# Altium footprint library mw.PcbLib: 252 footprints (part 10 of 16)
Each footprint in its own frame and in the unit in brackets; x right, y up, seen from the top. Pads: shape width x height; smd on the part's side, far side on the other; paste and mask are expansions set on the pad; w line width, h text height; cw(c..) or ccw(c..) is an arc to the next point about the centre after c.
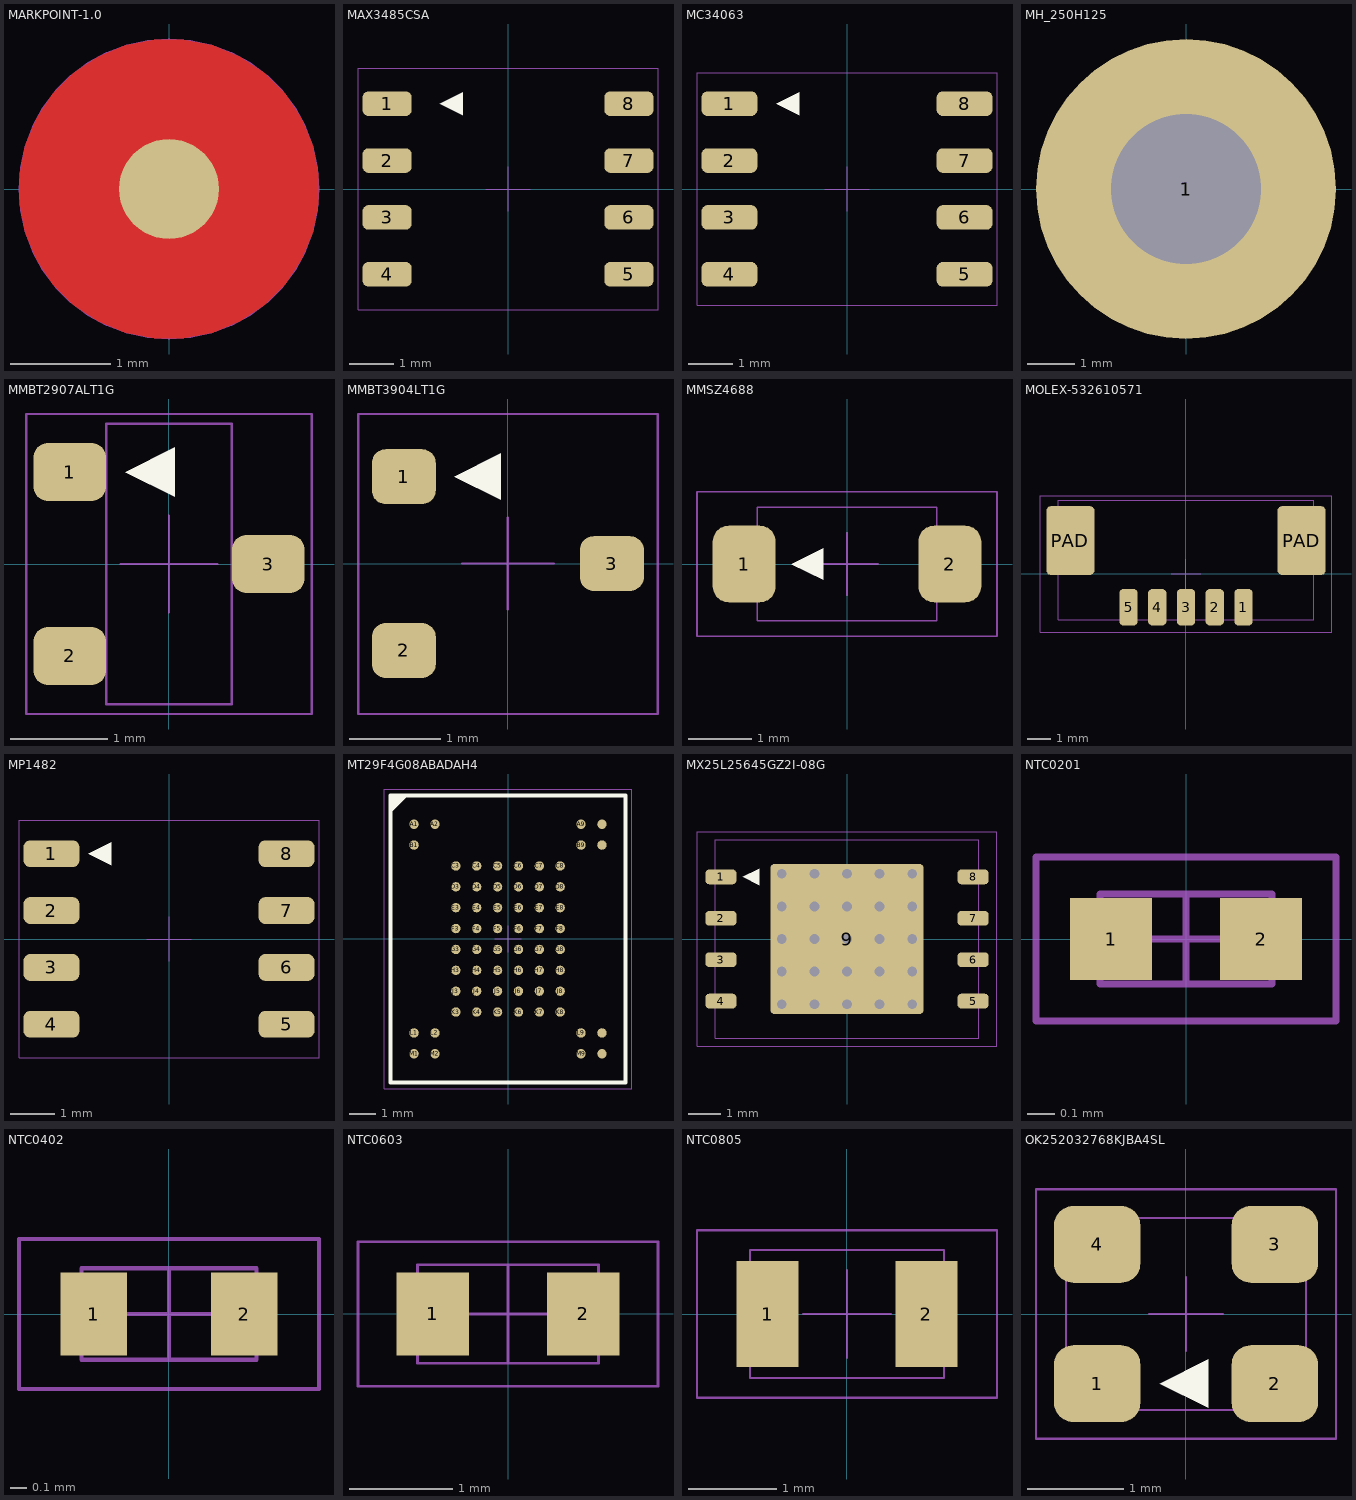
[diagram p9: the footprints below, top view; thin cyan lines are the x and y axes]

## MARKPOINT-1.0 [mm]
pads (2):
  round 1 smd: ""(0,0)
  round 3 on Top Solder: ""(0,0)
Top Layer:
  pour cut-out: 0,-1.494 -0.147,-1.494 -0.436,-1.437 -0.708,-1.324 -0.952,-1.161 -1.161,-0.952 -1.324,-0.708 -1.437,-0.436 -1.494,-0.147 -1.494,0 -1.494,0.147 -1.437,0.436 -1.324,0.708 -1.161,0.952 -0.952,1.161 -0.708,1.324 -0.436,1.437 -0.147,1.494 0,1.494 0.147,1.494 0.436,1.437 0.708,1.324 0.952,1.161 1.161,0.952 1.324,0.708 1.437,0.436 1.494,0.147 1.494,0 1.494,-0.147 1.437,-0.436 1.324,-0.708 1.161,-0.952 0.952,-1.161 0.708,-1.324 0.436,-1.437 0.147,-1.494
Top Courtyard:
  circle w0.025: c0,0 r1.494

## MAX3485CSA [mm]
height 1.7
pads (8):
  rrect50% 1.1x0.55 smd: 1(-2.7,1.905) 2(-2.7,0.635) 3(-2.7,-0.635) 4(-2.7,-1.905) 5(2.7,-1.905) 6(2.7,-0.635) 7(2.7,0.635) 8(2.7,1.905)
Top Overlay:
  region: -1.016,1.651 -1.016,2.159 -1.524,1.905
Top Courtyard:
  lines w0.025: -0.5,0 0.5,0 ; 0,-0.5 0,0.5 ; -3.35,-2.7 3.35,-2.7 3.35,2.7 -3.35,2.7 -3.35,-2.7
3D body "max3485.STEP": height 1.78, standoff 0, extent -3.128,-2.5 3.128,2.5

## MC34063 [mm]
height 1.6
pads (8):
  rrect50% 1.25x0.55 smd: 1(-2.625,1.905) 2(-2.625,0.635) 3(-2.625,-0.635) 4(-2.625,-1.905) 5(2.625,-1.905) 6(2.625,-0.635) 7(2.625,0.635) 8(2.625,1.905)
Top Overlay:
  region: -1.067,1.651 -1.067,2.159 -1.575,1.905
Top Courtyard:
  lines w0.025: -0.5,0 0.5,0 ; 0,-0.5 0,0.5 ; -3.35,-2.6 3.35,-2.6 3.35,2.6 -3.35,2.6 -3.35,-2.6
3D body "mp1482.STEP": height 1.74, standoff 0, extent -3.023,-2.428 3.132,2.472

## MH_250H125 [mm] "MH_250H125"
pads (1):
  round 6.35 hole 3.175: 1(0,0)
Bottom Assembly (Mech10):
  text "1" at -0.406,0 h0.51

## MMBT2907ALT1G [mm] "SOT23, 3-Leads, Body 2.85x2.25mm, Pitch 0.95mm, IPC High Density"
height 1
pads (3):
  rrect50% 0.75x0.6 smd: 1(-1.025,0.95) 2(-1.025,-0.95) 3(1.025,0)
Top Overlay:
  region: 0.058,0.696 0.058,1.204 -0.45,0.95
Top 3D Body (Mech13):
  lines w0.025: -0.65,-1.45 -0.65,1.45 0.65,1.45 0.65,-1.45 -0.65,-1.45
Top Courtyard:
  lines w0.025: -0.5,0 0.5,0 ; 0,-0.5 0,0.5 ; -1.475,-1.55 -1.475,1.55 1.475,1.55 1.475,-1.55 -1.475,-1.55
3D body "MMBT2907ALT1G.step": height 1, standoff 0, extent -1.3,-1.45 1.3,1.45

## MMBT3904LT1G [mm] "MMBT3904LT1G"
pads (3):
  rrect50% 0.7x0.6 smd: 1(-1.137,0.95) 2(-1.137,-0.95) 3(1.138,0)
Top Overlay:
  region: -0.079,0.696 -0.079,1.204 -0.587,0.95
Top Courtyard:
  lines w0.025: -0.5,0 0.5,0 ; 0,-0.5 0,0.5 ; -1.637,-1.645 -1.637,1.635 1.64,1.635 1.64,-1.645 -1.637,-1.645
3D body "sot23-3.STEP": height 1.04, standoff 0, extent -1.244,-1.499 1.221,1.501

## MMSZ4688 [mm] "TSOP, 2-Leads, Body 1.60x2.70mm, Pitch 0.80mm, IPC Medium Density"
height 1.35
pads (2):
  rrect50% 1x1.22 smd: 1(-1.635,0) 2(1.635,0)
Top Overlay:
  region: -0.381,-0.254 -0.381,0.254 -0.889,0
Top 3D Body (Mech13):
  lines w0.025: -1.425,-0.9 1.425,-0.9 1.425,0.9 -1.425,0.9 -1.425,-0.9
Top Courtyard:
  lines w0.025: -0.5,0 0.5,0 ; 0,-0.5 0,0.5 ; -2.385,-1.15 -2.385,1.15 2.385,1.15 2.385,-1.15 -2.385,-1.15
3D body "MMSZ4688.step": height 1.35, standoff 0, extent -1.85,-0.8 1.85,0.8

## MOLEX-532610571 [mm]
pads (7):
  rrect50% 0.8x1.6 smd: 1(2.5,-1.45) 2(1.25,-1.45) 3(0,-1.45) 4(-1.25,-1.45) 5(-2.5,-1.45)
  rrect20% 2.1x3 smd: PAD(-5.023,1.45) PAD(5.023,1.45)
Top 3D Body (Mech13):
  lines w0.025: -5.554,-2 5.554,-2 5.554,3.2 -5.554,3.2 -5.554,-2
Top Courtyard:
  lines w0.025: -0.635,0 0.635,0 ; 0,-0.635 0,0.635 ; -6.338,-2.526 -6.338,3.389 6.338,3.389 6.338,-2.526 -6.338,-2.526
3D body "MOLEX-532610571.step": height 3.4, standoff 0, extent -5.554,-2 5.554,3.2

## MP1482 [mm]
height 1.75
pads (8):
  rrect50% 1.25x0.6 smd: 1(-2.625,1.905) 2(-2.625,0.635) 3(-2.625,-0.635) 4(-2.625,-1.905) 5(2.625,-1.905) 6(2.625,-0.635) 7(2.625,0.635) 8(2.625,1.905)
Top Overlay:
  region: -1.292,1.651 -1.292,2.159 -1.8,1.905
Top Courtyard:
  lines w0.025: -0.5,0 0.5,0 ; 0,-0.5 0,0.5 ; -3.35,-2.65 3.35,-2.65 3.35,2.65 -3.35,2.65 -3.35,-2.65
3D body "mp1482.STEP": height 1.74, standoff 0, extent -3.023,-2.428 3.132,2.472

## MT29F4G08ABADAH4 [mm] "BGA, 63-Leads, Body 9.00x11.00mmx1.00mm, Pitch 0.80mm"
height 1
pads (63):
  round 0.36 smd: A1(-3.6,4.4) A2(-2.8,4.4) A9(2.8,4.4) A10(3.6,4.4) B1(-3.6,3.6) B9(2.8,3.6) B10(3.6,3.6) C3(-2,2.8) C4(-1.2,2.8) C5(-0.4,2.8) C6(0.4,2.8) C7(1.2,2.8) C8(2,2.8) D3(-2,2) D4(-1.2,2) D5(-0.4,2) D6(0.4,2) D7(1.2,2) D8(2,2) E3(-2,1.2) E4(-1.2,1.2) E5(-0.4,1.2) E6(0.4,1.2) E7(1.2,1.2) E8(2,1.2) F3(-2,0.4) F4(-1.2,0.4) F5(-0.4,0.4) F6(0.4,0.4) F7(1.2,0.4) F8(2,0.4) G3(-2,-0.4) G4(-1.2,-0.4) G5(-0.4,-0.4) G6(0.4,-0.4) G7(1.2,-0.4) G8(2,-0.4) H3(-2,-1.2) H4(-1.2,-1.2) H5(-0.4,-1.2) H6(0.4,-1.2) H7(1.2,-1.2) H8(2,-1.2) J3(-2,-2) J4(-1.2,-2) J5(-0.4,-2) J6(0.4,-2) J7(1.2,-2) J8(2,-2) K3(-2,-2.8) K4(-1.2,-2.8) K5(-0.4,-2.8) K6(0.4,-2.8) K7(1.2,-2.8) K8(2,-2.8) L1(-3.6,-3.6) L2(-2.8,-3.6) L9(2.8,-3.6) L10(3.6,-3.6) M1(-3.6,-4.4) M2(-2.8,-4.4) M9(2.8,-4.4) M10(3.6,-4.4)
Top Overlay:
  region: -3.847,5.5 -4.5,4.847 -4.5,5.5
  lines w0.152: -4.5,-5.5 4.5,-5.5 4.5,5.5 -4.5,5.5 -4.5,-5.5
Top Courtyard:
  lines w0.025: -0.5,0 0.5,0 ; 0,-0.5 0,0.5 ; -4.75,-5.75 4.75,-5.75 4.75,5.75 -4.75,5.75 -4.75,-5.75

## MX25L25645GZ2I-08G [mm] "SON, 8-Leads, Body 6.00x8.00mm, Pitch 1.27mm, Thermal Pad 4.60x4.70mm, IPC Medium Density"
height 0.8
pads (9):
  rrect50% 0.95x0.45 smd: 1(-3.87,1.905) 2(-3.87,0.635) 3(-3.87,-0.635) 4(-3.87,-1.905) 5(3.87,-1.905) 6(3.87,-0.635) 7(3.87,0.635) 8(3.87,1.905)
  rrect5% 4.7x4.6 smd paste-2.35: 9(0,0)
via -2,2 diameter 0.45 hole 0.3
via -1,2 diameter 0.45 hole 0.3
via 0,2 diameter 0.45 hole 0.3
via 1,2 diameter 0.45 hole 0.3
via 2,2 diameter 0.45 hole 0.3
via -2,1 diameter 0.45 hole 0.3
via -1,1 diameter 0.45 hole 0.3
via 0,1 diameter 0.45 hole 0.3
via 1,1 diameter 0.45 hole 0.3
via 2,1 diameter 0.45 hole 0.3
via -2,0 diameter 0.45 hole 0.3
via -1,0 diameter 0.45 hole 0.3
via 0,0 diameter 0.45 hole 0.3
via 1,0 diameter 0.45 hole 0.3
via 2,0 diameter 0.45 hole 0.3
via -2,-1 diameter 0.45 hole 0.3
via -1,-1 diameter 0.45 hole 0.3
via 0,-1 diameter 0.45 hole 0.3
via 1,-1 diameter 0.45 hole 0.3
via 2,-1 diameter 0.45 hole 0.3
via -2,-2 diameter 0.45 hole 0.3
via -1,-2 diameter 0.45 hole 0.3
via 0,-2 diameter 0.45 hole 0.3
via 1,-2 diameter 0.45 hole 0.3
via 2,-2 diameter 0.45 hole 0.3
Top Overlay:
  region: -2.687,1.651 -2.687,2.159 -3.195,1.905
Top Paste:
  rectangle: -2.26,1.25 -1.28,2.2
  rectangle: -2.26,0.1 -1.28,1.05
  rectangle: -2.26,-1.05 -1.28,-0.1
  rectangle: -2.26,-2.2 -1.28,-1.25
  rectangle: -1.08,1.25 -0.1,2.2
  rectangle: -1.08,0.1 -0.1,1.05
  rectangle: -1.08,-1.05 -0.1,-0.1
  rectangle: -1.08,-2.2 -0.1,-1.25
  rectangle: 0.1,1.25 1.08,2.2
  rectangle: 0.1,0.1 1.08,1.05
  rectangle: 0.1,-1.05 1.08,-0.1
  rectangle: 0.1,-2.2 1.08,-1.25
  rectangle: 1.28,1.25 2.26,2.2
  rectangle: 1.28,0.1 2.26,1.05
  rectangle: 1.28,-1.05 2.26,-0.1
  rectangle: 1.28,-2.2 2.26,-1.25
Top 3D Body (Mech13):
  lines w0.025: -4.05,-3.05 -4.05,3.05 4.05,3.05 4.05,-3.05 -4.05,-3.05
Top Courtyard:
  lines w0.025: -0.5,0 0.5,0 ; 0,-0.5 0,0.5 ; -4.605,-3.3 -4.605,3.3 4.605,3.3 4.605,-3.3 -4.605,-3.3
3D body "MX25L25645GZ2I-08G.step": height 0.8, standoff 0, extent -4.1,-3.05 4.1,3.05

## NTC0201 [mm] "Chip Resistor, 2-Leads, Body 0.60x0.30mm, IPC Medium Density"
height 0.33
pads (2):
  rect 0.3x0.3 smd: 1(-0.275,0) 2(0.275,0)
Top 3D Body (Mech13):
  lines w0.025: -0.315,-0.165 0.315,-0.165 0.315,0.165 -0.315,0.165 -0.315,-0.165
Top Courtyard:
  lines w0.025: -0.165,0 0.165,0 ; 0,-0.165 0,0.165 ; -0.55,-0.3 -0.55,0.3 0.55,0.3 0.55,-0.3 -0.55,-0.3
3D body "NTC0201.step": height 0.33, standoff 0, extent -0.315,-0.165 0.315,0.165

## NTC0402 [mm] "Chip Resistor, 2-Leads, Body 1.00x0.50mm, IPC Medium Density"
height 0.55
pads (2):
  rect 0.4x0.5 smd: 1(-0.451,0) 2(0.451,0)
Top 3D Body (Mech13):
  lines w0.025: -0.525,-0.275 -0.525,0.275 0.525,0.275 0.525,-0.275 -0.525,-0.275
Top Courtyard:
  lines w0.025: -0.275,0 0.275,0 ; 0,-0.275 0,0.275 ; -0.9,-0.45 0.9,-0.45 0.9,0.45 -0.9,0.45 -0.9,-0.45
3D body "NTC0402.step": height 0.55, standoff 0, extent -0.525,-0.275 0.525,0.275

## NTC0603 [mm] "Chip Resistor, 2-Leads, Body 1.60x0.80mm, IPC Medium Density"
height 0.95
pads (2):
  rect 0.7x0.8 smd: 1(-0.726,0) 2(0.726,0)
Top 3D Body (Mech13):
  lines w0.025: -0.875,-0.475 0.875,-0.475 0.875,0.475 -0.875,0.475 -0.875,-0.475
Top Courtyard:
  lines w0.025: -0.475,0 0.475,0 ; 0,-0.475 0,0.475 ; -1.45,-0.7 -1.45,0.7 1.45,0.7 1.45,-0.7 -1.45,-0.7
3D body "NTC0603.step": height 0.95, standoff 0, extent -0.875,-0.475 0.875,0.475

## NTC0805 [mm] "Chip Resistor, 2-Leads, Body 2.00x1.25mm, IPC Medium Density"
height 1.45
pads (2):
  rect 0.7x1.2 smd: 1(-0.901,0) 2(0.901,0)
Top 3D Body (Mech13):
  lines w0.025: -1.1,-0.725 1.1,-0.725 1.1,0.725 -1.1,0.725 -1.1,-0.725
Top Courtyard:
  lines w0.025: -0.5,0 0.5,0 ; 0,-0.5 0,0.5 ; -1.7,-0.95 1.7,-0.95 1.7,0.95 -1.7,0.95 -1.7,-0.95
3D body "NTC0805.step": height 1.45, standoff 0, extent -1.1,-0.725 1.1,0.725

## OK252032768KJBA4SL [mm]
pads (4):
  rrect50% 0.9x0.8 smd: 1(-0.925,-0.725) 2(0.925,-0.725) 3(0.925,0.725) 4(-0.925,0.725)
Top Overlay:
  region: 0.233,-0.979 0.233,-0.471 -0.275,-0.725
Top 3D Body (Mech13):
  lines w0.025: -1.25,-1 1.25,-1 1.25,1 -1.25,1 -1.25,-1
Top Courtyard:
  lines w0.025: -0.381,0 0.381,0 ; 0,-0.381 0,0.381 ; -1.562,-1.3 1.563,-1.3 1.563,1.3 -1.562,1.3 -1.562,-1.3
3D body "OT252025MJBA4SL.step": height 0.8, standoff 0, extent -1.25,-1 1.25,1